# Altium integrated library LIB_Horyn.IntLib: 25 symbols
Pins are listed as number, name and electrical type; pins without a type are passive.

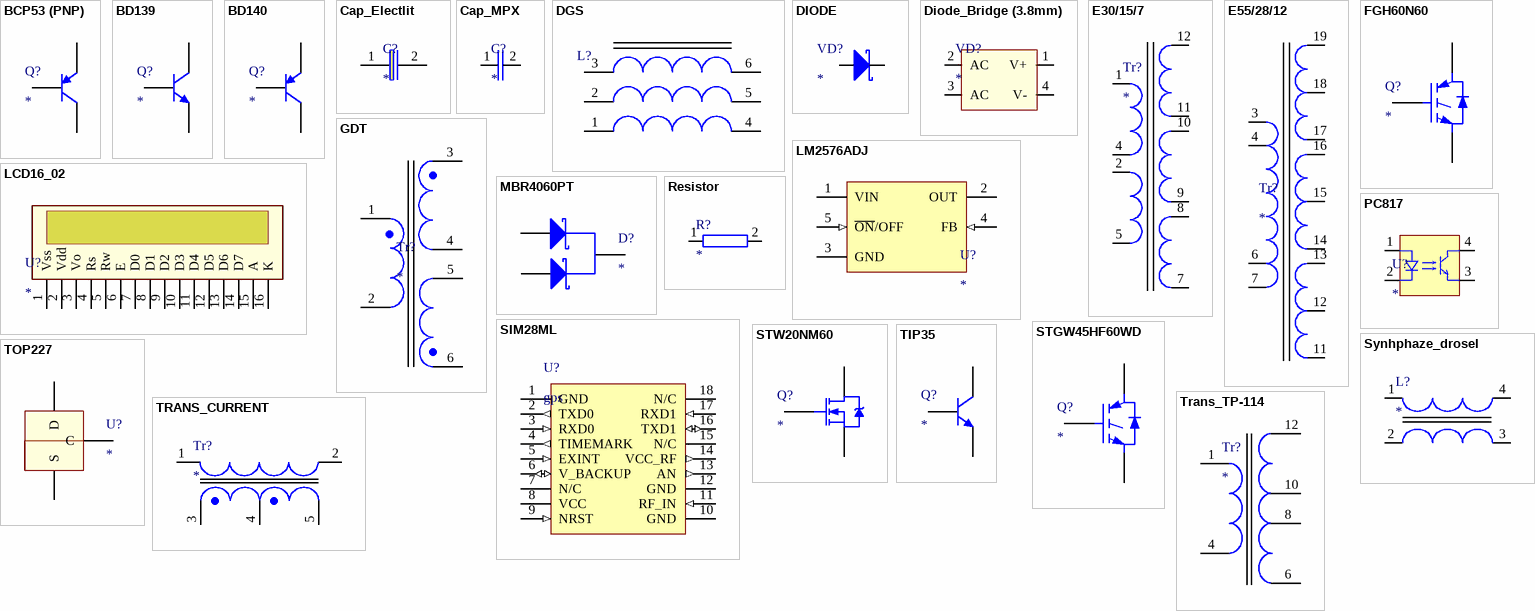
[diagram p0: symbols BCP53 (PNP) to Trans_TP-114]

## BCP53 (PNP)
designator Q?
footprint SOT223-4L (SOT223, 4-Leads, Body 6.5x3.5mm, Pitch 2.3mm, Lead Span 7mm, IPC High Density)
pins: 1 B, 2 C, 3 E

## BD139
designator Q?
footprint to-126
pins: 1 E, 2 C, 3 B

## BD140
designator Q?
footprint to-126
pins: 1 E, 2 C, 3 B

## Cap_Electlit
designator C?
footprint CAP 470uF/450V (35x11)
footprint CAP100uF/450V
pins: 1, 2

## Cap_MPX
designator C?
footprint Cap_(15mm)
footprint Cap_1kV_Y_(8mm)
pins: 1, 2

## DGS
designator L?
footprint Drosel_Group_Stab
pins: 1 3, 2, 3 1, 4, 5, 6

## DIODE
designator VD?
footprint 1n4007
footprint SR5100
pins: 1 A1, 2 K2

## Diode_Bridge (3.8mm)
designator VD?
footprint DIODE_BRIDGE (3.8mm)
footprint diode_bridge(7.5mm)
pins: 1 V+, 2 AC, 3 AC, 4 V-

## E30/15/7
designator Tr?
footprint E30/15/7
pins: 1, 2, 4, 5, 7, 8, 9, 10, 11, 12

## E55/28/12
designator Tr?
footprint E55/28/21
pins: 3, 4, 6, 7, 11, 12, 13, 14, 15, 16, 17, 18, 19

## FGH60N60
designator Q?
footprint TO_247
pins: 1 G, 2 C, 3 E

## GDT
designator Tr?
footprint GDS
pins: 1, 2, 3, 4, 5, 6

## LCD16_02
designator U?
footprint LCD16x02
footprint LCD-1602A
pins: 1 Vss, 2 Vdd, 3 Vo, 4 Rs, 5 Rw, 6 E, 7 D0, 8 D1, 9 D2, 10 D3, 11 D4, 12 D5, 13 D6, 14 D7, 15 A, 16 K

## LM2576ADJ
designator U?
footprint T0-220-5A (TO, Thru-Hole, Vertical, Heatsink Mounted; 5 In-Line Leads; Pitch 1.70 mm)
pins: 1 VIN (power), 2 OUT (power), 3 GND (power), 4 FB (in), 5 ~{ON}/OFF (in)

## MBR4060PT
designator D?
footprint TO_247
footprint TO-220AB (TO, Thru-Hole, Vertical, Heatsink Mounted; 3 In-Line Leads; Pitch 2.54 mm)
pins: 1 A1, 2 K, 3 A2

## PC817
designator U?
footprint DIP-4 (DIP; 4 Leads; Row Spacing 7.62 mm; Pitch 2.54 mm)
pins: 1 A, 2 K, 3 E, 4 C

## Resistor
designator R?
footprint Resistor_5w
footprint RESISTOR_2W
footprint RESISTOR_1W
footprint RESISTOR_0.5W
footprint RESISTOR_0.25W
footprint RESISTOR_0.125W
pins: 1, 2

## SIM28ML
designator U?, comment gps
footprint SIM28ML
pins: 1 GND (power) "Power Supply.", 2 TXD0 (out), 3 RXD0 (in) "Power Supply.", 4 TIMEMARK (out), 5 EXINT (in), 6 V_BACKUP (io), 7 N/C (power) "Power Supply.", 8 VCC (power) "Power Supply.", 9 NRST (in), 10 GND (power) "Power Supply.", 11 RF_IN (in) "Power Supply.", 12 GND (power) "Power Supply.", 13 AN (out), 14 VCC_RF (out), 15 N/C (power) "Power Supply.", 16 TXD1 (io), 17 RXD1 (in) "Power Supply.", 18 N/C (power) "Power Supply."

## STGW45HF60WD
designator Q?
footprint TO_247
pins: 1 G, 2 C, 3 E

## STW20NM60
designator Q?
footprint TO_247
pins: 1 G, 2 D, 3 S

## Synhphaze_drosel
designator L?
footprint Drosel
footprint L_filtr_EE
pins: 1, 2, 3, 4

## TIP35
designator Q?
footprint TO_247
pins: 1 B, 2 C, 3 E

## TOP227
designator U?
footprint TO-220AB (TO, Thru-Hole, Vertical, Heatsink Mounted; 3 In-Line Leads; Pitch 2.54 mm)
pins: 1 C, 2 S, 3 D

## TRANS_CURRENT
designator Tr?
footprint Trans_current (Footprint not found)
pins: 1, 2, 3, 4, 5

## Trans_TP-114
designator Tr?
footprint tp-114
pins: 1, 4, 6, 8, 10, 12